# EAGLE library part SCP1000 (library Sensor)
Akitsuki Denshi SCP1000 module store WEB site: link <http://akizukidenshi.com/catalog/g/gM-03468/>
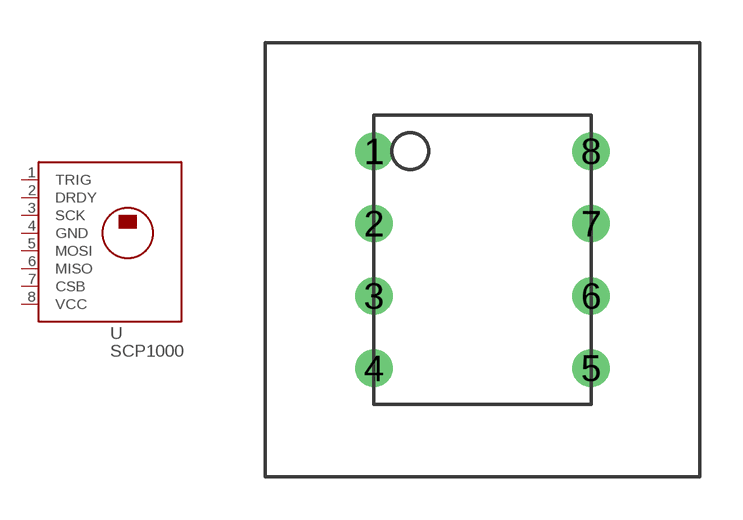
[diagram p1: symbol with the pads of SCP1000-AKI; footprint SCP1000-AKI]

Designator prefix U

## SCP1000AKI  [SCP1000-AKI]
1  TRIG  sup
2  DRDY  sup
3  SCK  in
4  GND  pwr
5  MOSI  in
6  MISO  out
7  CSB  in
8  VCC  pwr

## Footprint SCP1000-AKI (pad centres in mm)
drill 0.8: 1 -3.81,3.81; 2 -3.81,1.27; 3 -3.81,-1.27; 4 -3.81,-3.81; 5 3.81,-3.81; 6 3.81,-1.27; 7 3.81,1.27; 8 3.81,3.81